# Altium footprint library Ethe01Pro.PcbLib: 16 footprints
Each footprint in its own frame and in the unit in brackets; x right, y up, seen from the top. Pads: shape width x height; smd on the part's side, far side on the other; paste and mask are expansions set on the pad; w line width, h text height; cw(c..) or ccw(c..) is an arc to the next point about the centre after c.
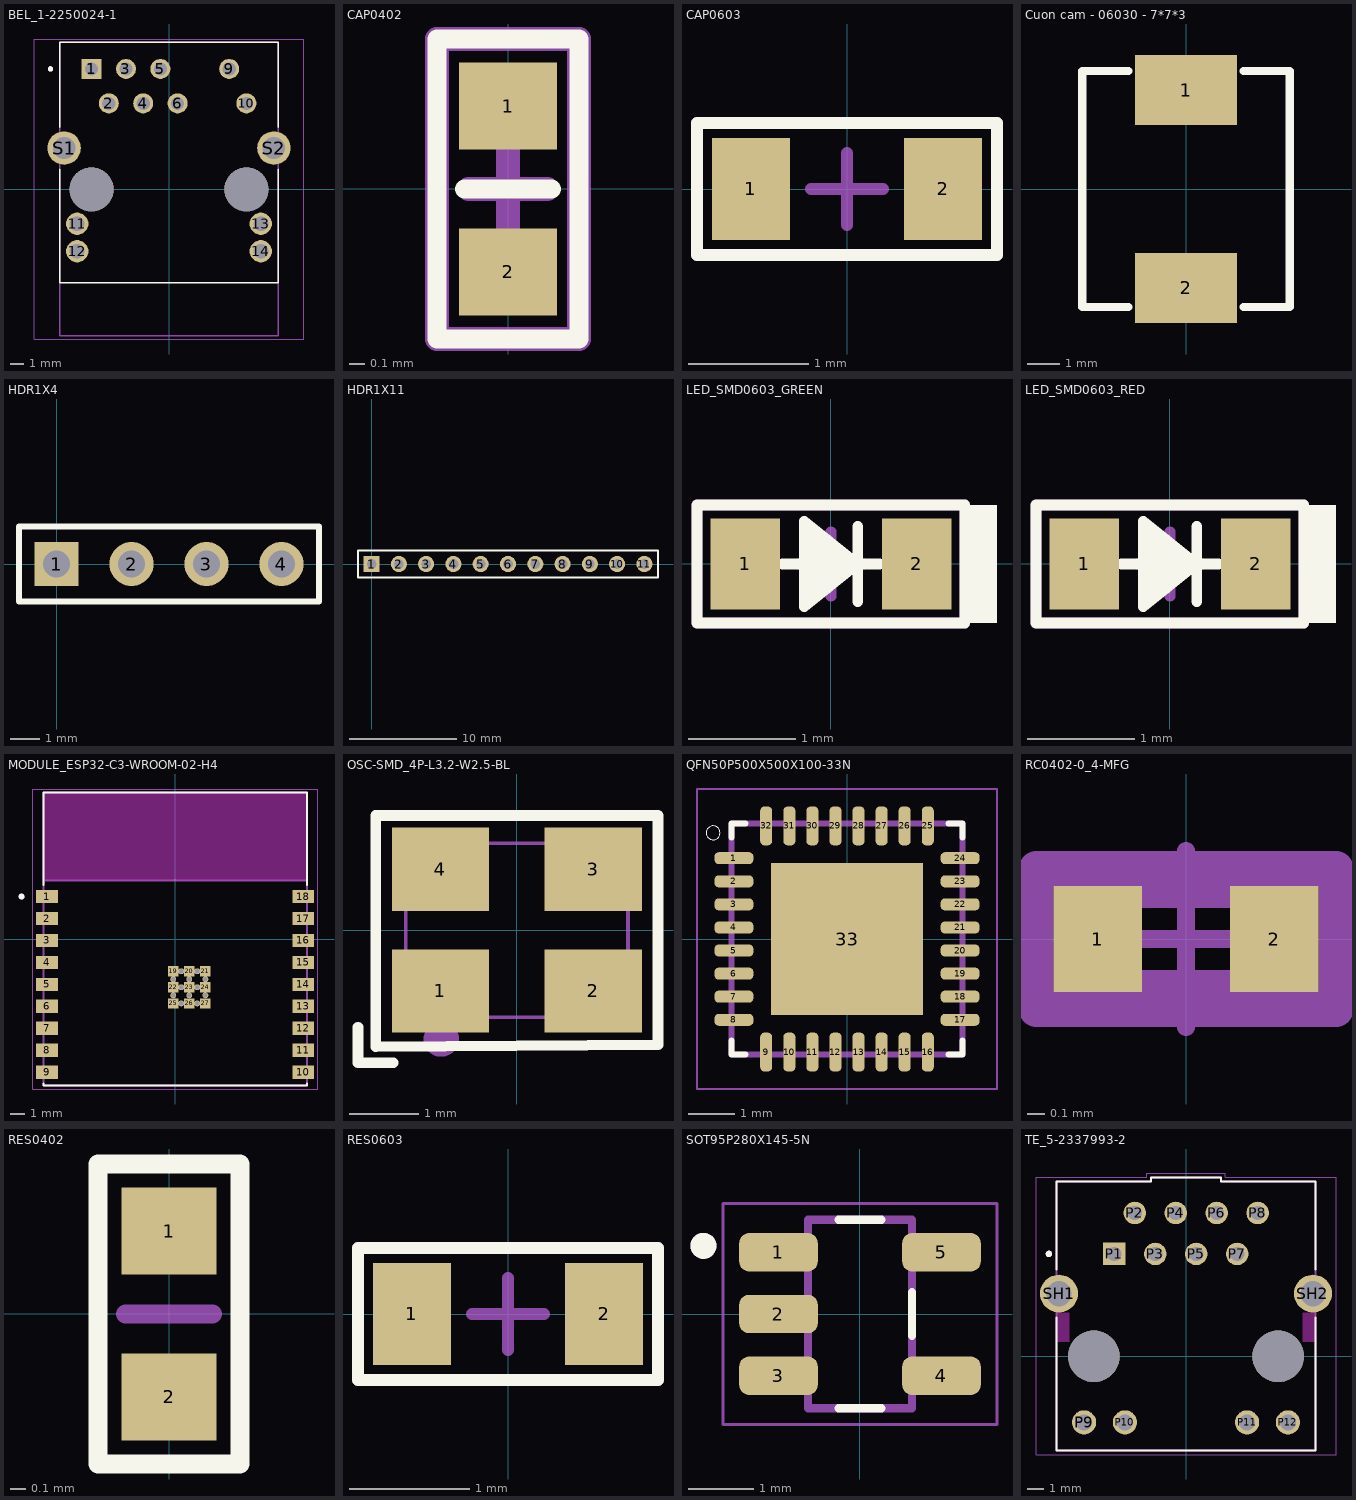
[diagram p0: the footprints below, top view; thin cyan lines are the x and y axes]

## BEL_1-2250024-1 [mm]
pads (16):
  rect 1.478x1.478 hole 0.97: 1(-5.715,8.89)
  round 1.478 hole 0.97: 2(-4.445,6.35) 3(-3.175,8.89) 4(-1.905,6.35) 5(-0.635,8.89) 6(0.635,6.35) 9(4.445,8.89) 10(5.715,6.35)
  round 1.65 hole 1.1: 11(-6.78,-2.54) 12(-6.78,-4.57) 13(6.78,-2.54) 14(6.78,-4.57)
  round 2.475 hole 1.65: S1(-7.745,3.05) S2(7.745,3.05)
  round 3.25 hole 3.25 unplated: ""(-5.715,0) ""(5.715,0)
Top Overlay:
  circle w0.2: c-8.75,8.89 r0.1
  lines w0.127: -8.065,1.48 -8.065,-6.9 8.065,-6.9 8.065,1.48 ; -8.065,4.6 -8.065,10.85 8.065,10.85 8.065,4.6
Mechanical 13:
  circle w0.2: c-8.75,8.89 r0.1
  lines w0.127: -8.065,-10.8 8.065,-10.8 8.065,10.85 -8.065,10.85 -8.065,-10.8
Mechanical 15:
  lines w0.05: -9.965,-11.05 -9.965,11.1 9.965,11.1 9.965,-11.05 -9.965,-11.05
3D body "1-2250024-1--3DModel-STEP-56544.STEP": height 15.34, standoff -3.68, extent -9.335,-11.325 9.335,10.825

## CAP0402 [mm]
pads (2):
  rect 0.62x0.55 smd: 1(0,0.525) 2(0,-0.525)
Top Overlay:
  lines w0.12: -0.275,0 0.275,0 ; -0.45,-0.95 0.45,-0.95 0.45,0.95 -0.45,0.95 -0.45,-0.95
Mechanical 15:
  lines w0.15: -0.45,0 -0.45,0.95 ; -0.249,0 0,0 ; 0,-0.249 0,0 ; 0,0.249 0,0 ; 0.249,0 0,0 ; -0.45,0.95 -0.45,-0.95 0.45,-0.95 0.45,0.95 -0.45,0.95
3D body "CAPC-0402-T0.55-BN.stp": height 0.55, standoff 0, extent -0.275,-0.525 0.275,0.525

## CAP0603 [mm]
height 7.62
pads (2):
  rect 0.65x0.85 smd: 1(-0.8,0) 2(0.8,0)
Top Overlay:
  lines w0.1: -1.25,-0.55 -1.25,0.55 1.25,0.55 1.25,-0.55 -1.25,-0.55
Mechanical 13:
  lines w0.1: -1.25,-0.55 -1.25,0.55 1.25,0.55 1.25,-0.55 -1.25,-0.55
Mechanical 15:
  lines w0.1: -0.3,0 0.3,0 ; 0,-0.3 0,0.3
3D body "User Library-cap_0603-1.STEP": height 0.79, standoff -0.01, extent -0.8,-0.4 0.8,0.4

## Cuon cam - 06030 - 7*7*3 [mm]
height 3.7
pads (2):
  rect 3.2x2.2 smd: 1(0,3.1) 2(0,-3.1)
Top Overlay:
  lines w0.254: -1.8,-3.7 -3.25,-3.7 -3.25,3.7 -1.8,3.7 ; 1.8,-3.7 3.25,-3.7 3.25,3.7 1.8,3.7
3D body "Inductor_SMD_AMPLF_0630.STEP": height 2.81, standoff -0.2, extent -3.35,-3.65 3.35,3.65

## HDR1X4 [mm] "Connector; Header; 4 Position"
height 7.62
pads (4):
  rect 1.5x1.5 hole 0.9: 1(0,0)
  round 1.5 hole 0.9: 2(2.54,0) 3(5.08,0) 4(7.62,0)
Top Overlay:
  lines w0.2: -1.27,-1.27 -1.27,1.27 8.89,1.27 8.89,-1.27 -1.27,-1.27
3D body: height 7, standoff -1, extent -0.406,-0.406 0.39,0.392
3D body: height 1.5, standoff 0, extent -1.27,-1.27 1.27,1.27
3D body: height 7, standoff -1, extent 2.134,-0.406 2.93,0.392
3D body: height 1.5, standoff 0, extent 1.27,-1.27 3.81,1.27
3D body: height 7, standoff -1, extent 4.674,-0.406 5.47,0.392
3D body: height 1.5, standoff 0, extent 3.81,-1.27 6.35,1.27
3D body: height 7, standoff -1, extent 7.214,-0.406 8.01,0.392
3D body: height 1.5, standoff 0, extent 6.35,-1.27 8.89,1.27

## HDR1X11 [mm] "Connector; Header; 11 Position"
height 7.62
pads (11):
  rect 1.5x1.5 hole 0.9: 1(0,0)
  round 1.5 hole 0.9: 2(2.54,0) 3(5.08,0) 4(7.62,0) 5(10.16,0) 6(12.7,0) 7(15.24,0) 8(17.78,0) 9(20.32,0) 10(22.86,0) 11(25.4,0)
Top Overlay:
  lines w0.2: -1.27,-1.27 26.67,-1.27 26.67,1.27 0.635,1.27 -1.27,1.27 -1.27,-1.27
3D body: height 1.5, standoff 0, extent 8.89,-1.27 11.43,1.27
3D body: height 7, standoff -1, extent 9.754,-0.406 10.55,0.392
3D body: height 1.5, standoff 0, extent 6.35,-1.27 8.89,1.27
3D body: height 7, standoff -1, extent 7.214,-0.406 8.01,0.392
3D body: height 1.5, standoff 0, extent 3.81,-1.27 6.35,1.27
3D body: height 7, standoff -1, extent 4.674,-0.406 5.47,0.392
3D body: height 1.5, standoff 0, extent 1.27,-1.27 3.81,1.27
3D body: height 7, standoff -1, extent 2.134,-0.406 2.93,0.392
3D body: height 1.5, standoff 0, extent -1.27,-1.27 1.27,1.27
3D body: height 7, standoff -1, extent -0.406,-0.406 0.39,0.392
3D body: height 1.5, standoff 0, extent 21.59,-1.27 24.13,1.27
3D body: height 7, standoff -1, extent 22.454,-0.406 23.25,0.392
3D body: height 1.5, standoff 0, extent 19.05,-1.27 21.59,1.27
3D body: height 7, standoff -1, extent 19.914,-0.406 20.71,0.392
3D body: height 1.5, standoff 0, extent 16.51,-1.27 19.05,1.27
3D body: height 7, standoff -1, extent 17.374,-0.406 18.17,0.392
3D body: height 1.5, standoff 0, extent 13.97,-1.27 16.51,1.27
3D body: height 7, standoff -1, extent 14.834,-0.406 15.63,0.392
3D body: height 1.5, standoff 0, extent 11.43,-1.27 13.97,1.27
3D body: height 7, standoff -1, extent 12.294,-0.406 13.09,0.392
3D body: height 1.5, standoff 0, extent 24.13,-1.27 26.67,1.27
3D body: height 7, standoff -1, extent 24.994,-0.406 25.79,0.392

## LED_SMD0603_GREEN [mm]
height 7.62
pads (2):
  rect 0.65x0.85 smd: 1(-0.8,0) 2(0.8,0)
Top Overlay:
  region: 1.55,0.55 1.25,0.55 1.25,-0.55 1.55,-0.55
  region: -0.25,-0.4 -0.25,0.4 0.25,0
  lines w0.1: -0.45,0 -0.25,0 ; 0.25,-0.35 0.25,0.35 ; 0.45,0 0.25,0 ; 0.25,0 -0.25,-0.4 -0.25,0.4 0.25,0 ; -1.25,-0.55 -1.25,0.55 1.25,0.55 1.25,-0.55 -1.25,-0.55
Mechanical 13:
  lines w0.1: -1.25,-0.55 -1.25,0.55 1.25,0.55 1.25,-0.55 -1.25,-0.55
Mechanical 15:
  lines w0.1: -0.3,0 0.3,0 ; 0,-0.3 0,0.3
3D body "User Library-LTST-C190GKT.STEP": height 0.9, standoff 0, extent -0.85,-0.45 0.85,0.45

## LED_SMD0603_RED [mm]
height 7.62
pads (2):
  rect 0.65x0.85 smd: 1(-0.8,0) 2(0.8,0)
Top Overlay:
  region: 1.55,0.55 1.25,0.55 1.25,-0.55 1.55,-0.55
  region: -0.25,-0.4 -0.25,0.4 0.25,0
  lines w0.1: -0.45,0 -0.25,0 ; 0.25,-0.35 0.25,0.35 ; 0.45,0 0.25,0 ; 0.25,0 -0.25,-0.4 -0.25,0.4 0.25,0 ; -1.25,-0.55 -1.25,0.55 1.25,0.55 1.25,-0.55 -1.25,-0.55
Mechanical 13:
  lines w0.1: -1.25,-0.55 -1.25,0.55 1.25,0.55 1.25,-0.55 -1.25,-0.55
Mechanical 15:
  lines w0.1: -0.3,0 0.3,0 ; 0,-0.3 0,0.3
3D body "User Library-LTST-C190EKT.STEP": height 0.9, standoff 0, extent -0.855,-0.45 0.845,0.45

## MODULE_ESP32-C3-WROOM-02-H4 [mm]
pads (39):
  rect 1.5x0.9 smd: 1(-8.75,2.9) 2(-8.75,1.4) 3(-8.75,-0.1) 4(-8.75,-1.6) 5(-8.75,-3.1) 6(-8.75,-4.6) 7(-8.75,-6.1) 8(-8.75,-7.6) 9(-8.75,-9.1) 10(8.75,-9.1) 11(8.75,-7.6) 12(8.75,-6.1) 13(8.75,-4.6) 14(8.75,-3.1) 15(8.75,-1.6) 16(8.75,-0.1) 17(8.75,1.4) 18(8.75,2.9)
  rect 0.7x0.7 smd: 19(-0.14,-2.2) 20(0.96,-2.2) 21(2.06,-2.2) 22(-0.14,-3.3) 23(0.96,-3.3) 24(2.06,-3.3) 25(-0.14,-4.4) 26(0.96,-4.4) 27(2.06,-4.4)
  round 0.4 hole 0.3 mask+0: 28(0.41,-2.2) 29(1.51,-2.2) 30(-0.14,-2.75) 31(0.96,-2.75) 32(2.06,-2.75) 33(0.41,-3.3) 34(1.51,-3.3) 35(-0.14,-3.85) 36(0.96,-3.85) 37(2.06,-3.85) 38(0.41,-4.4) 39(1.51,-4.4)
Top Overlay:
  circle w0.2: c-10.5,2.9 r0.1
  lines w0.127: -9,-9.87 -9,-10 9,-10 9,-9.87 ; -9,3.67 -9,10 9,10 9,3.67
Keep-Out Layer:
  region: 9,4 -9,4 -9,10 9,10
  region: 9,4 -9,4 -9,10 9,10
Mechanical 13:
  circle w0.2: c-10.5,2.9 r0.1
  lines w0.127: -9,4 -9,10 9,10 9,4 ; -9,4 -9,-10 9,-10 9,4 ; -9,4 9,4
Mechanical 15:
  lines w0.05: -9.75,-10.25 -9.75,10.25 9.75,10.25 9.75,-10.25 -9.75,-10.25
3D body "step_temp.STEP": height 3.35, standoff 0, extent -9,-10 9,10

## OSC-SMD_4P-L3.2-W2.5-BL [mm]
pads (4):
  rect 1.4x1.2 smd: 1(-1.1,-0.875) 2(1.1,-0.875) 3(1.1,0.875) 4(-1.1,0.875)
Top Overlay:
  lines w0.152: -2.286,-1.397 -2.286,-1.905 -1.778,-1.905 ; -2.029,-1.679 2.032,-1.651 2.032,0 2.032,1.651 -2.029,1.651 -2.029,-1.679
Mechanical 6:
  circle w0.254: c-1.088,-1.567 r0.127
  region: -1.206,1.206 -1.206,0.572 -1.079,0.572 -1.079,1.206
  region: -1.46,0.953 -0.699,0.953 -0.699,0.826 -1.46,0.826
  region: -1.738,-0.536 -1.702,-0.536 -1.702,-0.608 -1.738,-0.608
  region: -1.702,-0.536 -1.666,-0.536 -1.666,-0.608 -1.702,-0.608
  region: -1.666,-0.5 -1.63,-0.5 -1.63,-0.608 -1.666,-0.608
  region: -1.63,-0.464 -1.594,-0.464 -1.594,-0.572 -1.63,-0.572
  region: -1.594,-0.464 -1.558,-0.464 -1.558,-1.004 -1.594,-1.004
  region: -1.558,-0.428 -1.522,-0.428 -1.522,-1.004 -1.558,-1.004
  region: -1.522,-0.428 -1.486,-0.428 -1.486,-1.004 -1.522,-1.004
  region: -1.486,-0.428 -1.45,-0.428 -1.45,-1.004 -1.486,-1.004
Mechanical 15:
  region: 0.6,-0.449 1.5,-0.449 1.5,-1.249 0.6,-1.249
  region: -1.5,-0.449 -0.6,-0.449 -0.6,-1.249 -1.5,-1.249
  region: -1.5,1.249 -0.6,1.249 -0.6,0.449 -1.5,0.449
  region: 0.6,1.249 1.5,1.249 1.5,0.449 0.6,0.449
  region: -1.54,-1.25 -1.54,-1.225 -1.575,-1.191 -1.624,-1.191 -1.659,-1.225 -1.66,-1.25 -1.659,-1.274 -1.624,-1.309 -1.576,-1.309 -1.541,-1.274
  lines w0.051: -1.6,-1.25 1.6,-1.25 1.6,1.25 -1.6,1.25 -1.6,-1.25
3D body "ECS-250-6-33B2-CTN-TR3.STEP": height 0.8, standoff 0, extent -1.6,-1.25 1.6,1.25

## QFN50P500X500X100-33N [mm]
pads (33):
  rrect70% 0.84x0.26 smd: 1(-2.45,1.75) 2(-2.45,1.25) 3(-2.45,0.75) 4(-2.45,0.25) 5(-2.45,-0.25) 6(-2.45,-0.75) 7(-2.45,-1.25) 8(-2.45,-1.75) 17(2.45,-1.75) 18(2.45,-1.25) 19(2.45,-0.75) 20(2.45,-0.25) 21(2.45,0.25) 22(2.45,0.75) 23(2.45,1.25) 24(2.45,1.75)
  rrect70% 0.26x0.84 smd: 9(-1.75,-2.45) 10(-1.25,-2.45) 11(-0.75,-2.45) 12(-0.25,-2.45) 13(0.25,-2.45) 14(0.75,-2.45) 15(1.25,-2.45) 16(1.75,-2.45) 25(1.75,2.45) 26(1.25,2.45) 27(0.75,2.45) 28(0.25,2.45) 29(-0.25,2.45) 30(-0.75,2.45) 31(-1.25,2.45) 32(-1.75,2.45)
  rect 3.3x3.3 smd paste-3: 33(0,0)
Top Overlay:
  circle w0: c-2.9,2.3 r0.15
  lines w0.127: -2.5,-2.2 -2.5,-2.5 -2.2,-2.5 ; -2.5,2.2 -2.5,2.5 -2.2,2.5 ; 2.2,-2.5 2.5,-2.5 2.5,-2.2 ; 2.2,2.5 2.5,2.5 2.5,2.2
Top Paste:
  region: 1.05,-1.052 -1.052,-1.052 -1.052,1.05 1.05,1.05
Mechanical 13:
  lines w0.127: -2.5,-2.5 2.5,-2.5 2.5,2.5 -2.5,2.5 -2.5,-2.5
Mechanical 15:
  lines w0.05: -3.25,-3.25 3.25,-3.25 3.25,3.25 -3.25,3.25 -3.25,-3.25
3D body "QFN32.STEP": height 1, standoff 0, extent -2.46,-2.46 2.54,2.54

## RC0402-0_4-MFG [mm]
pads (2):
  rect 0.5x0.6 smd paste+0 mask+0: 1(-0.5,0) 2(0.5,0)
Mechanical 5:
  lines w0.2: -0.85,-0.4 -0.85,0.4 0.85,0.4 0.85,-0.4 -0.85,-0.4
Mechanical 13:
  lines w0.2: -0.525,-0.275 -0.525,0.275 0.525,0.275 0.525,-0.275 -0.525,-0.275
Mechanical 15:
  lines w0.2: -0.85,-0.4 -0.85,0.4 0.85,0.4 0.85,-0.4 -0.85,-0.4
Mechanical 16:
  lines w0.1: -0.5,0 0.5,0 ; 0,-0.5 0,0.5
3D body "Res_YAGEO_RC0402JR-071ML_eec.STEP": height 0.25, standoff 0, extent -0.85,-0.4 0.85,0.4

## RES0402 [mm]
pads (2):
  rect 0.6x0.55 smd: 1(0,0.525) 2(0,-0.525)
Top Overlay:
  lines w0.12: -0.45,-0.95 -0.45,0.95 0.45,0.95 0.45,-0.95 -0.45,-0.95
Mechanical 15:
  lines w0.12: -0.275,0 0.275,0
3D body "RESC-0402.stp": height 0.4, standoff 0, extent -0.275,-0.525 0.275,0.525

## RES0603 [mm]
height 7.62
pads (2):
  rect 0.65x0.85 smd: 1(-0.8,0) 2(0.8,0)
Top Overlay:
  lines w0.1: -1.25,-0.55 -1.25,0.55 1.25,0.55 1.25,-0.55 -1.25,-0.55
Mechanical 13:
  lines w0.1: -1.25,-0.55 -1.25,0.55 1.25,0.55 1.25,-0.55 -1.25,-0.55
Mechanical 15:
  lines w0.1: -0.3,0 0.3,0 ; 0,-0.3 0,0.3
3D body "User Library-RESC1608X05N.STEP": height 0.45, standoff 0, extent -0.785,-0.425 0.765,0.425

## SOT95P280X145-5N [mm]
pads (5):
  rrect50% 1.21x0.59 smd: 1(-1.255,0.95) 2(-1.255,0) 3(-1.255,-0.95) 4(1.255,-0.95) 5(1.255,0.95)
Top Overlay:
  circle w0.2: c-2.41,1.05 r0.1
  lines w0.127: -0.33,-1.45 0.33,-1.45 ; -0.33,1.45 0.33,1.45 ; 0.8,-0.335 0.8,0.335
Mechanical 13:
  circle w0.2: c-2.41,1.05 r0.1
  lines w0.127: -0.8,-1.45 -0.8,1.45 0.8,1.45 0.8,-1.45 -0.8,-1.45
Mechanical 15:
  lines w0.05: -2.11,-1.7 2.11,-1.7 2.11,1.7 -2.11,1.7 -2.11,-1.7
3D body "LP2985AIM5-2.8_NOPB.STEP": height 1.45, standoff 0, extent -1.4,-1.45 1.4,1.45

## TE_5-2337993-2 [mm]
height 16.9
pads (16):
  rect 1.398x1.398 / inner round 1.398 / far side rect 1.398x1.398 hole 0.89: P1(-4.445,6.35)
  round 1.398 hole 0.89: P2(-3.175,8.89) P3(-1.905,6.35) P4(-0.635,8.89) P5(0.635,6.35) P6(1.905,8.89) P7(3.175,6.35) P8(4.445,8.89)
  round 1.508 hole 1: P9(-6.325,-4.1) P10(-3.785,-4.1) P11(3.785,-4.1) P12(6.325,-4.1)
  round 2.355 hole 1.57: SH1(-7.875,3.89) SH2(7.875,3.89)
  round 3.2 hole 3.2 unplated: ""(-5.715,0) ""(5.715,0)
Top Overlay:
  circle w0.2: c-8.5,6.35 r0.1
  lines w0.127: -8.025,2.392 -8.025,-5.85 8.025,-5.85 8.025,2.392 ; -8.025,5.388 -8.025,10.85 -2.17,10.85 -2.17,11.1 2.17,11.1 2.17,10.85 8.025,10.85 8.025,5.388
Keep-Out Layer:
  region: 8.025,0.89 7.225,0.89 7.225,2.69 8.025,2.69
  region: -7.225,0.89 -8.025,0.89 -8.025,2.69 -7.225,2.69
Mechanical 13:
  circle w0.2: c-8.5,6.35 r0.1
  lines w0.127: -8.025,-5.85 -8.025,10.85 -2.17,10.85 -2.17,11.1 2.17,11.1 2.17,10.85 8.025,10.85 8.025,-5.85 -8.025,-5.85
Mechanical 15:
  lines w0.05: -9.303,-6.1 9.303,-6.1 9.303,11.1 2.42,11.1 2.42,11.35 -2.42,11.35 -2.42,11.1 -9.303,11.1 -9.303,-6.1